# EAGLE library part DRV8876 (library DRV8876)
DRV8876 37v 3.5A Motor Driver Min. VM = 4.5v tOff (current limit) = 25µs Vil <= 0.7v Vih 1.5 - 5.5v PMODE PMODE=0 PH/EN mode PMODE=1 PWM mode PMODE=hiZ Independent totems IMODE IMODE=GND Fixed Off-Time, Automatic Retry !Fault = Overcurrent only IMODE=20kΩ to GND Cycle-by-Cycle, Automatic Retry !Fault = Current Chopping IMODE=62kΩ to GND Cycle-by-Cycle, Latch Off !Fault = Current Chop IMODE=Hi-Z Fixed Off-Time, Latch Off !Fault = Overcurrent Only IPROPI 1mA/A
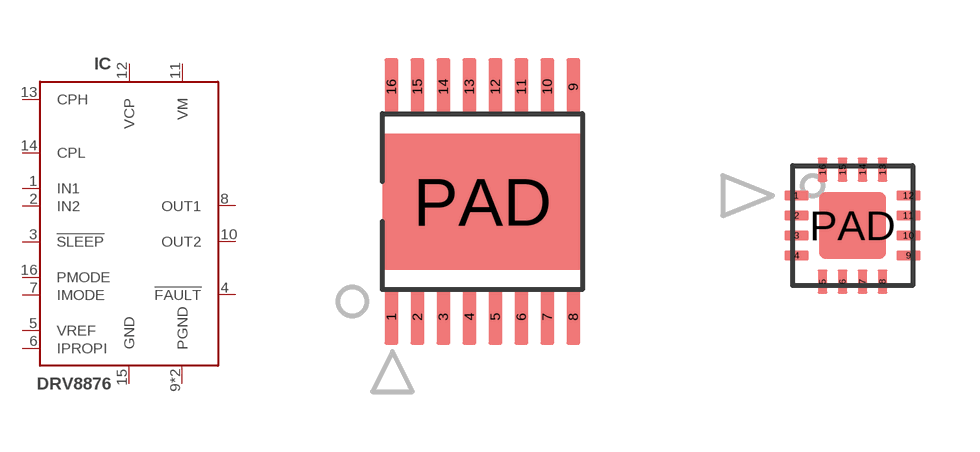
[diagram p0: symbol with the pads of TSSOP-16; footprints TSSOP-16, QFN16_3X3MM]

Designator prefix IC

## DRV8876PWP  [TSSOP-16]
1  IN1  in
2  IN2  in
3  !SLEEP  in
4  !FAULT  in
5  VREF  in
6  IPROPI
7  IMODE  in
8  OUT1  out
9  PGND
10  OUT2  out
11  VM  in
12  VCP
13  CPH
14  CPL
15  GND  pwr
16  PMODE  in
PAD  PGND

## DRV8876RGT  [QFN16_3X3MM]
1  !SLEEP  in
2  !FAULT  in
3  VREF  in
4  IPROPI
5  IMODE  in
6  OUT1  out
7  PGND
8  OUT2  out
9  VM  in
10  VCP
11  CPH
12  CPL
13  GND  pwr
14  PMODE  in
15  IN1  in
16  IN2  in
PAD  PGND

## Footprint TSSOP-16 (pad centres in mm)
smd 0.35 x 1.4: 1 -2.275,-2.875; 2 -1.625,-2.875; 3 -0.975,-2.875; 4 -0.325,-2.875; 5 0.325,-2.875; 6 0.975,-2.875; 7 1.625,-2.875; 8 2.275,-2.875; 9 2.275,2.875; 10 1.625,2.875; 11 0.975,2.875; 12 0.325,2.875; 13 -0.325,2.875; 14 -0.975,2.875; 15 -1.625,2.875; 16 -2.275,2.875
smd 5 x 3.4: PAD 0,0

## Footprint QFN16_3X3MM (pad centres in mm)
smd 0.6 x 0.24: 1 -1.4,0.75; 2 -1.4,0.25; 3 -1.4,-0.25; 4 -1.4,-0.75; 9 1.4,-0.75; 10 1.4,-0.25; 11 1.4,0.25; 12 1.4,0.75
smd 0.24 x 0.6: 5 -0.75,-1.4; 6 -0.25,-1.4; 7 0.25,-1.4; 8 0.75,-1.4; 13 0.75,1.4; 14 0.25,1.4; 15 -0.25,1.4; 16 -0.75,1.4
smd 1.68 x 1.68: PAD 0,0